# Altium schematic symbol library Inte_Car.SchLib: 4 symbols
Pins are listed as number, name and electrical type; pins without a type are passive.

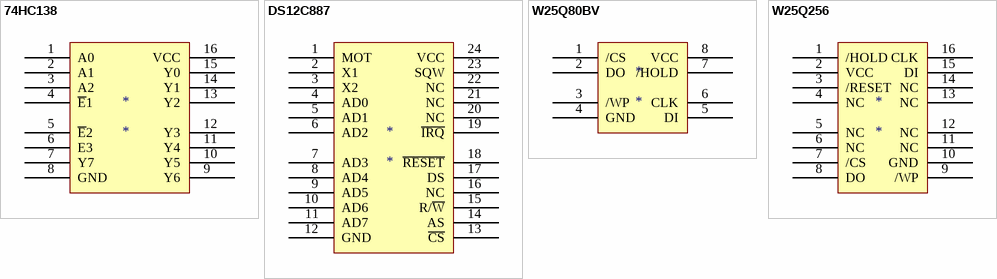
[diagram p0: symbols 74HC138 to W25Q256]

## 74HC138
designator *
footprint 74HC138 (SOP127P600-8N)
pins: 1 A0, 2 A1, 3 A2, 4 ~{E}1, 5 ~{E}2, 6 E3, 7 Y7, 8 GND, 9 Y6, 10 Y5, 11 Y4, 12 Y3, 13 Y2, 14 Y1, 15 Y0, 16 VCC

## DS12C887
designator *
footprint DS12885
pins: 1 MOT, 2 X1, 3 X2, 4 AD0, 5 AD1, 6 AD2, 7 AD3, 8 AD4, 9 AD5, 10 AD6, 11 AD7, 12 GND, 13 ~{CS}, 14 AS, 15 R/~{W}, 16 NC, 17 DS, 18 ~{RESET}, 19 ~{IRQ}, 20 NC, 21 NC, 22 NC, 23 SQW, 24 VCC

## W25Q80BV
designator *
footprint W25Q80BV
pins: 1 /CS, 2 DO, 3 /WP, 4 GND, 5 DI, 6 CLK, 7 /HOLD, 8 VCC

## W25Q256
designator *
footprint W25Q256
pins: 1 /HOLD, 2 VCC, 3 /RESET, 4 NC, 5 NC, 6 NC, 7 /CS, 8 DO, 9 /WP, 10 GND, 11 NC, 12 NC, 13 NC, 14 NC, 15 DI, 16 CLK